# EAGLE library part SI4816BDY (library my library)
Dual N-channel mosfet with shottky diode
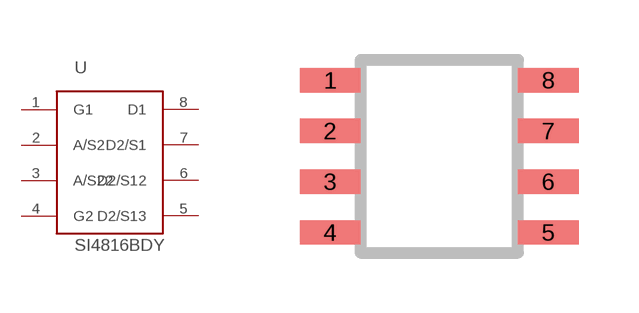
[diagram p1: symbol with the pads of SOIC-8; footprint SOIC-8]

Designator prefix -

## SI4816BDY  [SOIC-8]
1  G1
2  A/S2
3  A/S22
4  G2
5  D2/S13
6  D2/S12
7  D2/S1
8  D1

## Footprint SOIC-8 (pad centres in mm)
smd 1.524 x 0.61: 1 0,3.81; 2 0,2.54; 3 0,1.27; 4 0,0; 5 5.461,0; 6 5.461,1.27; 7 5.461,2.54; 8 5.461,3.81